# Altium footprint library Capacitors_rus.PCBLIB: 349 footprints (part 22 of 22)
Each footprint in its own frame and in the unit in brackets; x right, y up, seen from the top. Pads: shape width x height; smd on the part's side, far side on the other; paste and mask are expansions set on the pad; w line width, h text height; cw(c..) or ccw(c..) is an arc to the next point about the centre after c.
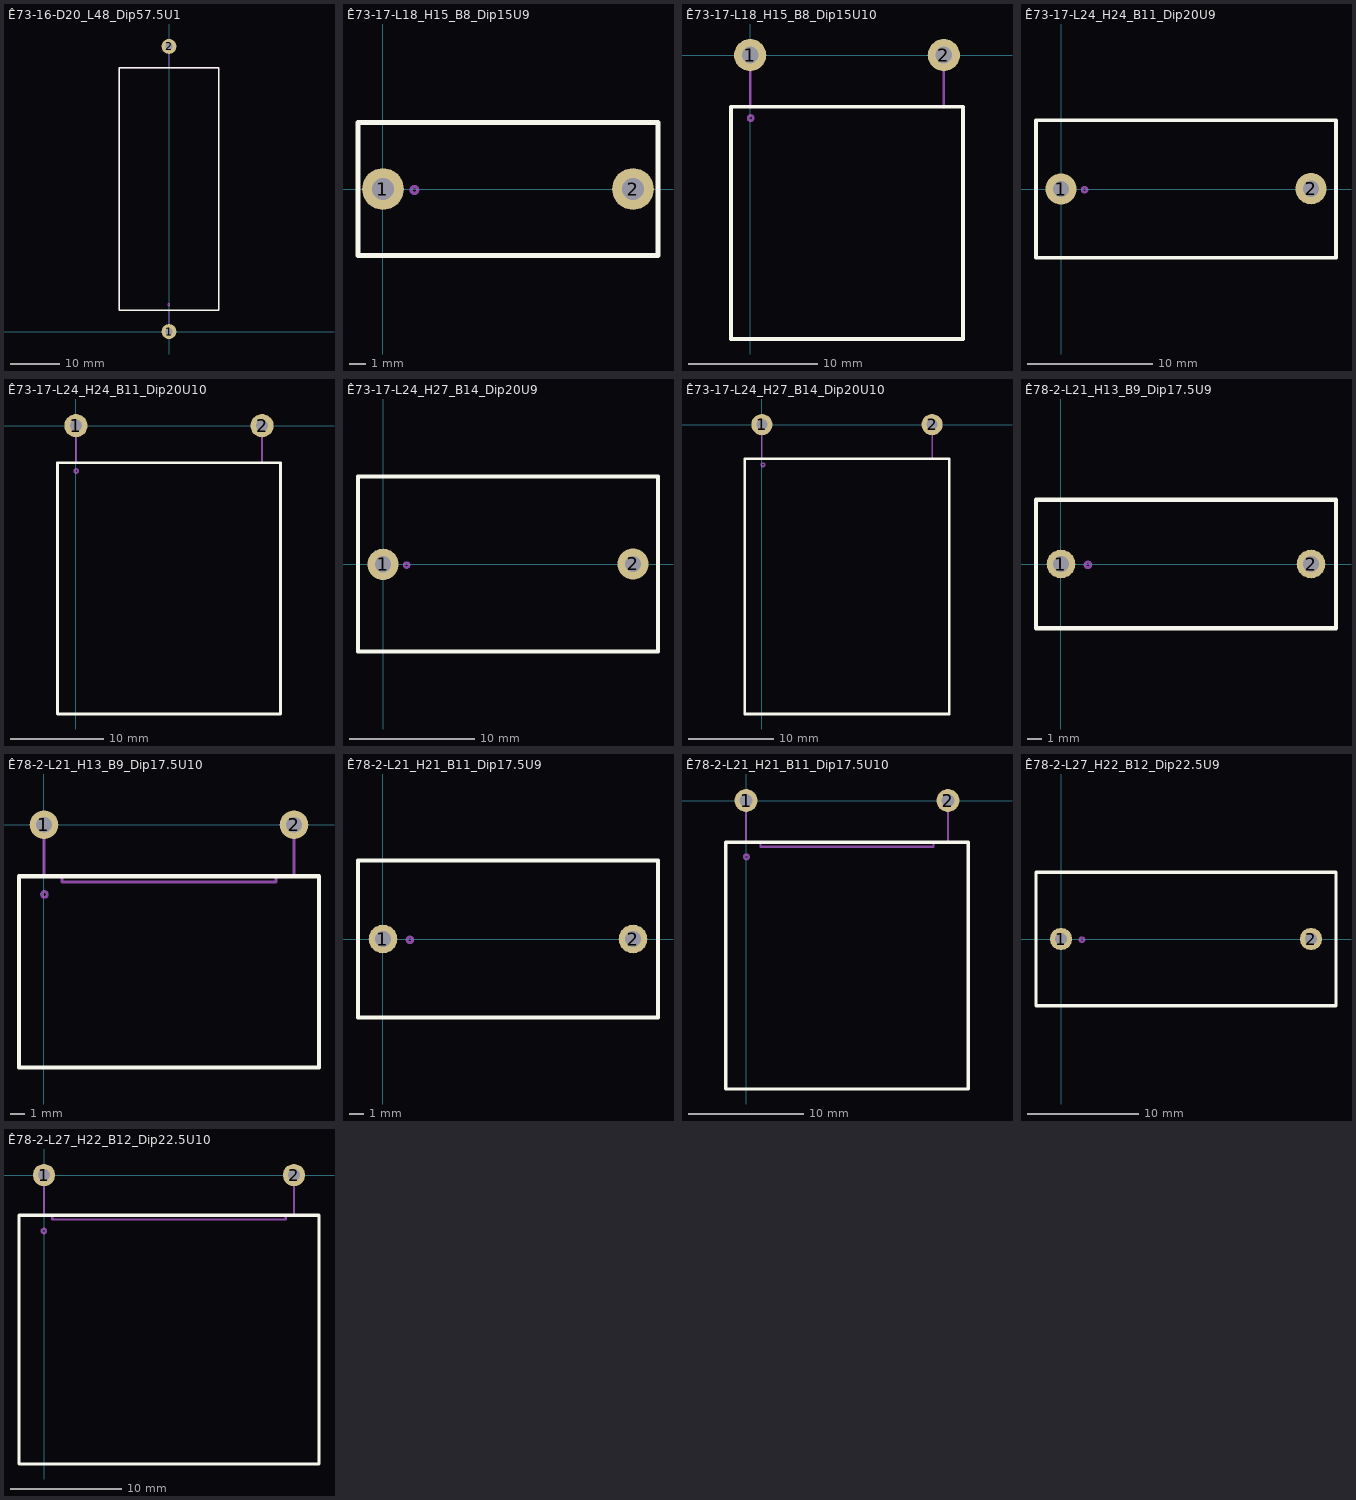
[diagram p21: the footprints below, top view; thin cyan lines are the x and y axes]

## Ê73-16-D20_L48_Dip57.5U1 [mm]
height 20.8
pads (2):
  round 3 hole 1.5: 1(0,0) 2(0,57.5)
Top Overlay:
  lines w0.3: -10,4.25 -10,53.25 10,53.25 10,4.25 -10,4.25
Mechanical 1:
  circle w0.2: c-0.05,5.44 r0.2
  lines w0.2: 0,0 0,4.27 ; 0,53.23 0,57.5 ; -10,4.25 -10,53.25 10,53.25 10,4.25 -10,4.25
  text ".Designator" at 0.2,27.35 h1.5
3D body: height 20, standoff -3, extent -10,-0.5 9.961,57.998

## Ê73-17-L18_H15_B8_Dip15U9 [mm]
height 18
pads (2):
  round 2.5 hole 1.3: 1(0,0) 2(15,0)
Top Overlay:
  lines w0.3: -1.5,-4 -1.5,4 16.5,4 16.5,-4 -1.5,-4
Mechanical 1:
  circle w0.2: c1.885,-0.06 r0.2
  lines w0.2: -1.5,-4 -1.5,4 16.5,4 16.5,-4 -1.5,-4
  text ".Designator" at 5,-0.5 h1.5

## Ê73-17-L18_H15_B8_Dip15U10 [mm]
height 8
pads (2):
  round 2.5 hole 1.3: 1(0,0) 2(15,0)
Top Overlay:
  lines w0.3: -1.5,-22 16.5,-22 16.5,-4 -1.5,-4 -1.5,-22
Mechanical 1:
  circle w0.2: c0.03,-4.88 r0.2
  lines w0.2: 0,-4.02 0,0 ; 15,-4.02 15,0 ; -1.5,-22 16.5,-22 16.5,-4 -1.5,-4 -1.5,-22
  text ".Designator" at 5,-13.5 h1.5

## Ê73-17-L24_H24_B11_Dip20U9 [mm]
height 27
pads (2):
  round 2.5 hole 1.3: 1(0,0) 2(20,0.025)
Top Overlay:
  lines w0.3: -2,-5.5 22,-5.5 22,5.5 -2,5.5 -2,-5.5
Mechanical 1:
  circle w0.2: c1.885,-0.06 r0.2
  lines w0.2: -2,-5.5 22,-5.5 22,5.5 -2,5.5 -2,-5.5
  text ".Designator" at 7.4,-0.3 h1.5

## Ê73-17-L24_H24_B11_Dip20U10 [mm]
height 11
pads (2):
  round 2.5 hole 1.3: 1(0,0) 2(20,0)
Top Overlay:
  lines w0.3: -2,-31 -2,-4 22,-4 22,-31 -2,-31
Mechanical 1:
  circle w0.2: c0.03,-4.88 r0.2
  lines w0.2: 0,-4.02 0,0 ; 20,-4.02 20,0 ; -2,-31 -2,-4 22,-4 22,-31 -2,-31
  text ".Designator" at 8.4,-19.3 h1.5

## Ê73-17-L24_H27_B14_Dip20U9 [mm]
height 30
pads (2):
  round 2.5 hole 1.3: 1(0,0) 2(20,0.025)
Top Overlay:
  lines w0.3: -2,-6.975 22,-6.975 22,7.025 -2,7.025 -2,-6.975
Mechanical 1:
  circle w0.2: c1.885,-0.06 r0.2
  lines w0.2: -2,-6.975 22,-6.975 22,7.025 -2,7.025 -2,-6.975
  text ".Designator" at 8.4,-0.3 h1.5

## Ê73-17-L24_H27_B14_Dip20U10 [mm]
height 14
pads (2):
  round 2.5 hole 1.3: 1(0,0) 2(20,0)
Top Overlay:
  lines w0.3: -2,-34 -2,-4 22,-4 22,-34 -2,-34
Mechanical 1:
  circle w0.2: c0.13,-4.73 r0.2
  lines w0.2: 0,-4.02 0,0 ; 20,-4.02 20,0 ; -2,-34 -2,-4 22,-4 22,-34 -2,-34
  text ".Designator" at 8.4,-19.3 h1.5

## Ê78-2-L21_H13_B9_Dip17.5U9 [mm]
height 14
pads (2):
  round 2 hole 1.1: 1(0,0) 2(17.5,0)
Top Overlay:
  lines w0.3: -1.75,-4.5 -1.75,4.5 19.25,4.5 19.25,-4.5 -1.75,-4.5
Mechanical 1:
  circle w0.2: c1.885,-0.06 r0.2
  lines w0.2: -1.75,-4.5 -1.75,4.5 19.25,4.5 19.25,-4.5 -1.75,-4.5
  text ".Designator" at 7.4,-0.3 h1.5

## Ê78-2-L21_H13_B9_Dip17.5U10 [mm]
height 9.5
pads (2):
  round 2 hole 1.1: 1(0,0) 2(17.5,0)
Top Overlay:
  lines w0.3: -1.75,-17 -1.75,-3.6 19.25,-3.6 19.25,-17 -1.75,-17
Mechanical 1:
  circle w0.2: c0.03,-4.88 r0.2
  lines w0.2: 0,-3.6 0,0 ; 17.5,-3.6 17.5,0 ; -1.75,-17 -1.75,-3.6 1.25,-3.6 1.25,-4 16.25,-4 16.25,-3.6 19.25,-3.6 19.25,-17 -1.75,-17
  text ".Designator" at 6.4,-11.3 h1.5

## Ê78-2-L21_H21_B11_Dip17.5U9 [mm]
height 22
pads (2):
  round 2 hole 1.1: 1(0,0) 2(17.5,0)
Top Overlay:
  lines w0.3: -1.75,-5.5 -1.75,5.5 19.25,5.5 19.25,-5.5 -1.75,-5.5
Mechanical 1:
  circle w0.2: c1.885,-0.06 r0.2
  lines w0.2: -1.75,-5.5 -1.75,5.5 19.25,5.5 19.25,-5.5 -1.75,-5.5
  text ".Designator" at 7.4,-0.3 h1.5

## Ê78-2-L21_H21_B11_Dip17.5U10 [mm]
height 11.5
pads (2):
  round 2 hole 1.1: 1(0,0) 2(17.5,0)
Top Overlay:
  lines w0.3: -1.75,-25 -1.75,-3.6 19.25,-3.6 19.25,-25 -1.75,-25
Mechanical 1:
  circle w0.2: c0.03,-4.88 r0.2
  lines w0.2: 0,-3.6 0,0 ; 17.5,-3.6 17.5,0 ; -1.75,-25 -1.75,-3.6 1.25,-3.6 1.25,-4 16.25,-4 16.25,-3.6 19.25,-3.6 19.25,-25 -1.75,-25
  text ".Designator" at 6.4,-15.3 h1.5

## Ê78-2-L27_H22_B12_Dip22.5U9 [mm]
height 23
pads (2):
  round 2 hole 1.1: 1(0,0) 2(22.5,0)
Top Overlay:
  lines w0.3: -2.25,-6 24.75,-6 24.75,6 -2.25,6 -2.25,-6
Mechanical 1:
  circle w0.2: c1.885,-0.06 r0.2
  lines w0.2: -2.25,-6 24.75,-6 24.75,6 -2.25,6 -2.25,-6
  text ".Designator" at 9.4,-0.3 h1.5

## Ê78-2-L27_H22_B12_Dip22.5U10 [mm]
height 12.5
pads (2):
  round 2 hole 1.1: 1(0,0) 2(22.5,0)
Top Overlay:
  lines w0.3: -2.25,-26 -2.25,-3.6 24.75,-3.6 24.75,-26 -2.25,-26
Mechanical 1:
  circle w0.2: c-0.02,-5.03 r0.2
  lines w0.2: 0,-3.6 0,0 ; 22.5,-3.6 22.5,0 ; -2.25,-26 -2.25,-3.6 0.75,-3.6 0.75,-4 21.75,-4 21.75,-3.6 24.75,-3.6 24.75,-26 -2.25,-26
  text ".Designator" at 8.4,-16.3 h1.5